# EAGLE library part DIST_TO_CONV (library Dist_To_Conv_Connector)
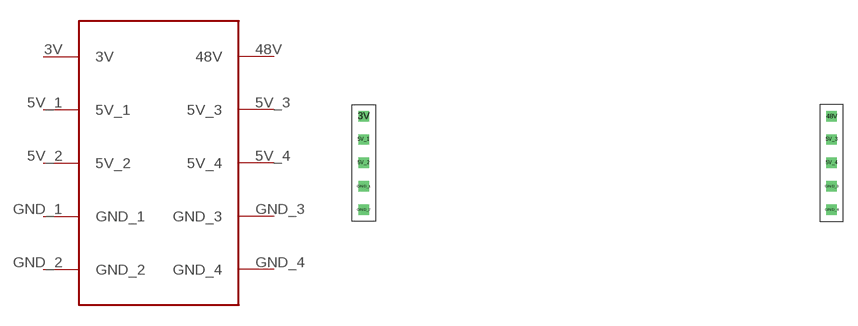
[diagram p0: symbol with the pads of DIST_TO_CONV; footprint DIST_TO_CONV]

Designator prefix -

## DIST_TO_CONV  [DIST_TO_CONV]
3V  3V
5V_1  5V_1
5V_2  5V_2
5V_3  5V_3
5V_4  5V_4
48V  48V
GND_1  GND_1
GND_2  GND_2
GND_3  GND_3
GND_4  GND_4

## Footprint DIST_TO_CONV (pad centres in mm)
drill 0.6 square: 3V -2.489,2.489; 5V_1 -2.489,0; 5V_2 -2.489,-2.489; 5V_3 47.295,0; 5V_4 47.295,-2.489; 48V 47.295,2.489; GND_1 -2.489,-4.978; GND_2 -2.489,-7.468; GND_3 47.295,-4.978; GND_4 47.295,-7.468